# EAGLE library part 690367282276 (library Wurth_Connectors_WR-MM)
WR-MM Female SMT Connector with Polarization KIND PROPERTIES: Pitch 2.54 mm Quality Class25 Mating cycles Gender:Female MATERIAL PROPERTIES: Insulator Material:PA6T Insulator Flammability Rating UL94 V-0 Insulator Color:Red Contact Material :Phosphor Bronze Contact Plating :Mat Tin over Nickel Contact Type: Stamped GENERAL PROPERTIES: Operating Temperature:-40 °C up to +105 °C Compliance Lead free / RoHS ELECTRICAL PROPERTIES: IR 1:1.5 A Working Voltage 100 V (AC) Withstanding Voltage:500 V (AC) Contact Resistance: 10 mΩ Insulation Resistance:1000 MΩ PACKAGING PROPERTIES: cULus Approval:E323964 Packaging :Tape and Reel <https://katalog.we-online.com/media/images/v2/o58636v209%20Family_Female_SMT_ConnectorWPolarzation_WR-MM_69036728xx76.jpg> Details see:Web1: https://katalog.we-online.com/en/em/MM_1_27_SMT_FEMALE_CONNECTOR_WITH_POLARIZATION_69036728XX76_2 Web2: https://katalog.we-online.com/en/em/MM_1_27_SMT_FEMALE_CONNECTOR_WITH_POLARIZATION_69036728XX76 Updated by Yingchun,Shan 2019-10-28 2019 (C) Würth Elektronik
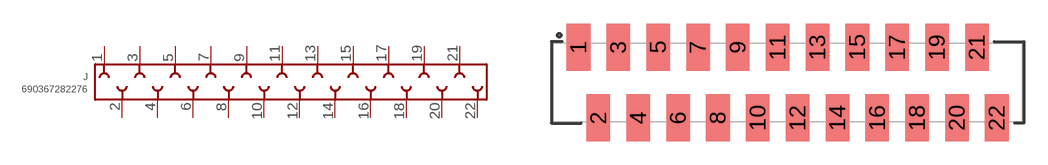
[diagram p96: symbol with the pads of 690367282276; footprint 690367282276]

Designator prefix J

## 690367282276 (DATASHEET-URL: https://www.we-online.com/catalog/datasheet/690367282276.pdf; GENDER: Female; IR: 1.5A; PACKAGING: Tape and Reel; PART-NUMBER: 690367282276; PINS: 22; PITCH: 2.54; TYPE: Straight; VALUE: 690367282276)  [690367282276]
1  1  pas
2  2  pas
3  3  pas
4  4  pas
5  5  pas
6  6  pas
7  7  pas
8  8  pas
9  9  pas
10  10  pas
11  11  pas
12  12  pas
13  13  pas
14  14  pas
15  15  pas
16  16  pas
17  17  pas
18  18  pas
19  19  pas
20  20  pas
21  21  pas
22  22  pas

## Footprint 690367282276 (pad centres in mm)
WR-MM Female SMT Connector with Polarization,22 pins
smd 1.5 x 3: 1 -13.335,2.25; 2 -12.065,-2.25; 3 -10.795,2.25; 4 -9.525,-2.25; 5 -8.255,2.25; 6 -6.985,-2.25; 7 -5.715,2.25; 8 -4.445,-2.25; 9 -3.175,2.25; 10 -1.905,-2.25; 11 -0.635,2.25; 12 0.635,-2.25; 13 1.905,2.25; 14 3.175,-2.25; 15 4.445,2.25; 16 5.715,-2.25; 17 6.985,2.25; 18 8.255,-2.25; 19 9.525,2.25; 20 10.795,-2.25; 21 12.065,2.25; 22 13.335,-2.25